# Altium schematic symbol library STPS5L25B-TR.SchLib: 1 symbol
Pins are listed as number, name and electrical type; pins without a type are passive.

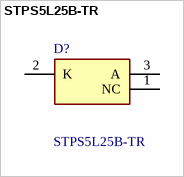
[diagram p0: symbol STPS5L25B-TR]

## STPS5L25B-TR
designator D?
Low drop power Schottky rectifier 5.0 Amp 25 Volt; Manufacturer_Name: STMicroelectronics; Geometry.Height: 2.63mm; Mouser Part Number: 511-STPS5L25B; Mouser Price/Stock: https://www.mouser.co.uk/ProductDetail/STMicroelectronics/STPS5L25B-TR?qs=NDbFxHnTsWx5E0AFSTeRaQ%3D%3D; Manufacturer_Part_Number: STPS5L25B-TR; Datasheet Link: https://www.st.com/resource/en/datasheet/stps5l25.pdf
footprint STPS5L25BTR
pins: 1 NC, 2 K, 3 A